# EAGLE library part RV-3028 (library pimoroni-ics)
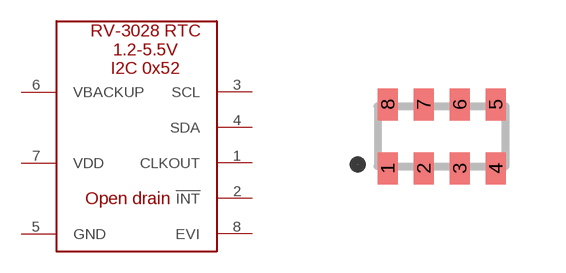
[diagram p87: symbol with the pads of RV-3028; footprint RV-3028]

Designator prefix Y

## RV-3028  [RV-3028]
1  CLKOUT
2  !INT
3  SCL
4  SDA
5  GND
6  VBACKUP
7  VDD
8  EVI

## Footprint RV-3028 (pad centres in mm)
smd 0.5 x 0.8: 1 -1.35,-0.8; 2 -0.45,-0.8; 3 0.45,-0.8; 4 1.35,-0.8; 5 1.35,0.8; 6 0.45,0.8; 7 -0.45,0.8; 8 -1.35,0.8